# EAGLE library part BORON (library Particle-Devices)
BORON The Particle Boron cellular enabled development kit. More information: https://docs.particle.io/boron/ Footprint and formfactor based on Adafruit Feather. <https://www.adafruit.com/feather>
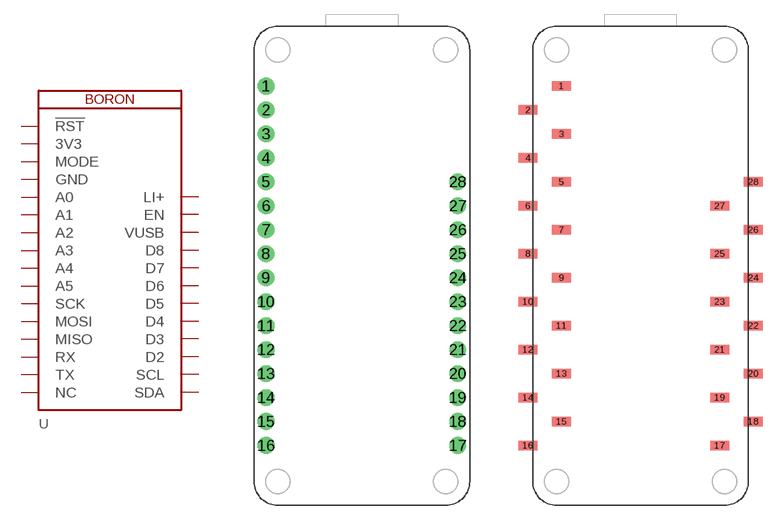
[diagram p14: symbol with the pads of BORON; footprints BORON, BORON-SMD]

Designator prefix U

## BORON  [BORON]
1  !RST  in
2  3V3  pwr
3  MODE
4  GND  pwr
5  A0
6  A1
7  A2
8  A3
9  A4
10  A5
11  SCK
12  MOSI
13  MISO
14  RX
15  TX
16  NC
17  SDA
18  SCL
19  D2
20  D3
21  D4
22  D5
23  D6
24  D7
25  D8
26  VUSB  pwr
27  EN  in
28  LI+  pwr

## BORONBORON-SMD  [BORON-SMD]
Pads as for BORON

## Footprint BORON (pad centres in mm)
BORON Footprint and formfactor based on Adafruit Feather. <https://www.adafruit.com/feather> More information: https://docs.particle.io/boron/ Please pay attention to the keepout areas under the antenna to get good RF performance.
drill 1 pad 1.778: 1 1.27,44.45; 2 1.27,41.91; 3 1.27,39.37; 4 1.27,36.83; 5 1.27,34.29; 6 1.27,31.75; 7 1.27,29.21; 8 1.27,26.67; 9 1.27,24.13; 10 1.27,21.59; 11 1.27,19.05; 12 1.27,16.51; 13 1.27,13.97; 14 1.27,11.43; 15 1.27,8.89; 16 1.27,6.35; 17 21.59,6.35; 18 21.59,8.89; 19 21.59,11.43; 20 21.59,13.97; 21 21.59,16.51; 22 21.59,19.05; 23 21.59,21.59; 24 21.59,24.13; 25 21.59,26.67; 26 21.59,29.21; 27 21.59,31.75; 28 21.59,34.29

## Footprint BORON-SMD (pad centres in mm)
BORON Footprint and formfactor based on Adafruit Feather. <https://www.adafruit.com/feather> More information: https://docs.particle.io/boron/ Please pay attention to the keepout areas under the antenna to get good RF performance.
smd 2.032 x 1.016: 1 3.048,44.45; 2 -0.508,41.91; 3 3.048,39.37; 4 -0.508,36.83; 5 3.048,34.29; 6 -0.508,31.75; 7 3.048,29.21; 8 -0.508,26.67; 9 3.048,24.13; 10 -0.508,21.59; 11 3.048,19.05; 12 -0.508,16.51; 13 3.048,13.97; 14 -0.508,11.43; 15 3.048,8.89; 16 -0.508,6.35; 17 19.812,6.35; 18 23.368,8.89; 19 19.812,11.43; 20 23.368,13.97; 21 19.812,16.51; 22 23.368,19.05; 23 19.812,21.59; 24 23.368,24.13; 25 19.812,26.67; 26 23.368,29.21; 27 19.812,31.75; 28 23.368,34.29